# Altium integrated library TI Power Management Power Over Ethernet.IntLib: 76 symbols (part 1 of 9)
Pins are listed as number, name and electrical type; pins without a type are passive.

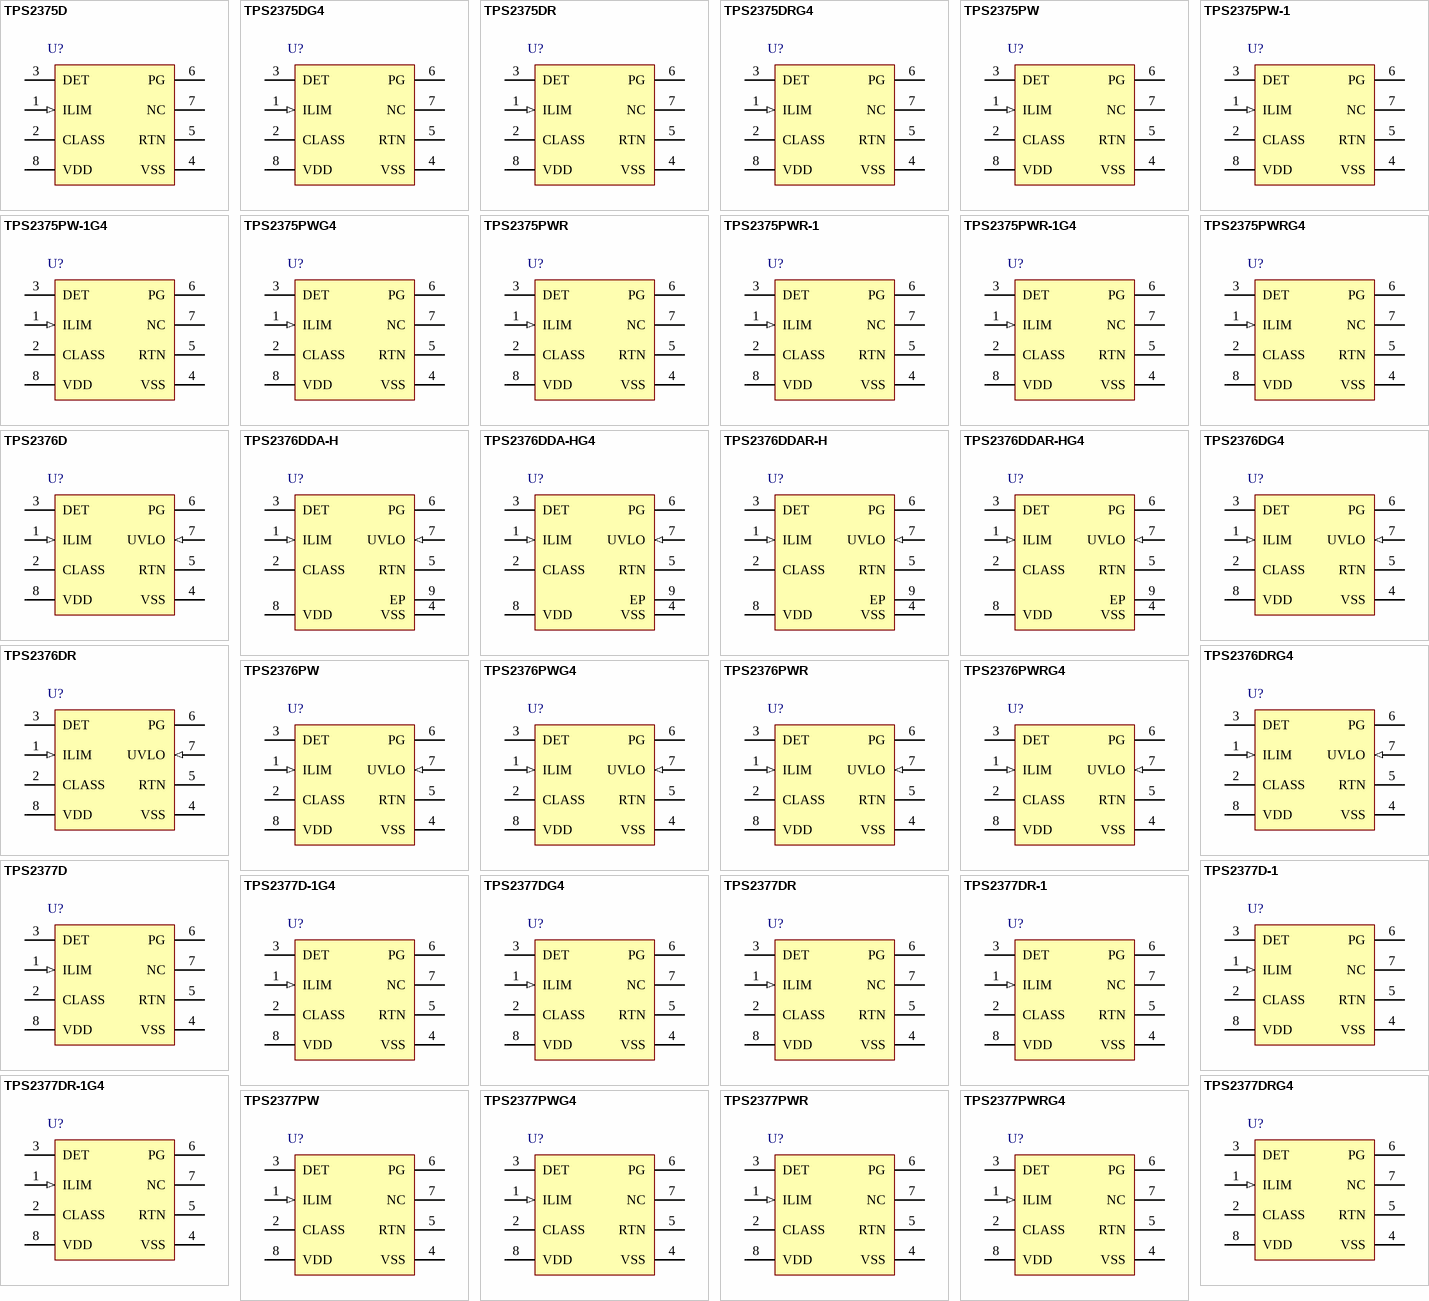
[diagram p0: symbols TPS2375D to TPS2377PWRG4]

## TPS2375D
designator U?
IEEE 802.3af PoE Powered Device Controller, -40 to 85 degC, 8-pin SOIC (D8), Green (RoHS & no Sb/Br); Manufacturer: Texas Instruments; PartNumber: TPS2375D; Auxiliary/Local Power Support: External Circuit; Fault Response: Latch; PD Power Level: 13W; PoE Current Limit(Min)(mA): 405; PoE I/F: TRUE; PoE Inrush Limit(Typ)(mA): Programmable; PoE Standards Supported: 802.3at type1; rDS(on) per FET(Typ)(mOhms): 580; DatasheetVersion: SLVS525B; PackageVersion: 4040047-3/M; PackageReference: D8; PackageDescription: 8-Pin Plastic Small Outline, Body 4.9 x 3.9 mm, Pitch 1.27 mm; Supplier 1: Digi-Key; Supplier Part Number 1: 296-17061-ND; Supplier 2: Farnell; Supplier Part Number 2: 8456860; Supplier 3: Newark; Supplier Part Number 3: 10J9742; Supplier 4: Mouser; Supplier Part Number 4: 595-TPS2375D; Eco-Plan: Green (RoHS & no Sb/Br); SubFamily: Powered Device; UVLO: 802.3af; Mounting Technology: Surface Mount; Code_JEDEC: MS-012; ComponentLink1Description: Manufacturer URL; ComponentLink1URL: http://www.ti.com/; ComponentLink2Description: Datasheet; ComponentLink2URL: http://www.ti.com/general/docs/lit/getliterature.tsp?genericPartNumber=TPS2375&fileType=pdf; ComponentLink3Description: Package Specification; ComponentLink3URL: http://www.ti.com/litv/pdf/msoi002j
footprint TI-D8_N (SOIC, 8-Leads, Body 4.9x3.9mm, Pitch 1.27mm, IPC Medium Density)
footprint TI-D8_L (SOIC, 8-Leads, Body 4.9x3.9mm, Pitch 1.27mm, IPC High Density)
footprint TI-D8_M (SOIC, 8-Leads, Body 4.9x3.9mm, Pitch 1.27mm, IPC Low Density)
pins: 1 ILIM (in) "Connect a resistor from ILIM to VSS to set the start-up inrush current limit. The equation for calculating the resistor is shown in the detailed pin description section for ILIM.", 2 CLASS "Connect a resistor from CLASS to VSS to set the classification of the powered device (PD).", 3 DET "Connect a 24.9-k ohm detection resistor from DET to VDD for a valid PD detection.", 4 VSS (power) "Return line on the source side of the TPS2375 from the PSE.", 5 RTN "Switched output side return line used as the low-side reference for the TPS2375 load.", 6 PG (hiz) "Open-drain, power-good output; active high.", 7 NC "No connection", 8 VDD (power) "Positive line from the rectified PSE provided input."

## TPS2375DG4
designator U?
IEEE 802.3af PoE Powered Device Controller, -40 to 85 degC, 8-pin SOIC (D8), Green (RoHS & no Sb/Br); Manufacturer: Texas Instruments; PartNumber: TPS2375DG4; Auxiliary/Local Power Support: External Circuit; Fault Response: Latch; PD Power Level: 13W; PoE Current Limit(Min)(mA): 405; PoE I/F: TRUE; PoE Inrush Limit(Typ)(mA): Programmable; PoE Standards Supported: 802.3at type1; rDS(on) per FET(Typ)(mOhms): 580; DatasheetVersion: SLVS525B; PackageVersion: 4040047-3/M; PackageReference: D8; PackageDescription: 8-Pin Plastic Small Outline, Body 4.9 x 3.9 mm, Pitch 1.27 mm; Supplier 1: Digi-Key; Supplier Part Number 1: TPS2375DG4-ND; Supplier 2: Newark; Supplier Part Number 2: 54K1590; Supplier 3: Mouser; Supplier Part Number 3: 595-TPS2375DG4; Eco-Plan: Green (RoHS & no Sb/Br); SubFamily: Powered Device; UVLO: 802.3af; Mounting Technology: Surface Mount; Code_JEDEC: MS-012; ComponentLink1Description: Manufacturer URL; ComponentLink1URL: http://www.ti.com/; ComponentLink2Description: Datasheet; ComponentLink2URL: http://www.ti.com/general/docs/lit/getliterature.tsp?genericPartNumber=TPS2375&fileType=pdf; ComponentLink3Description: Package Specification; ComponentLink3URL: http://www.ti.com/litv/pdf/msoi002j
footprint TI-D8_N (SOIC, 8-Leads, Body 4.9x3.9mm, Pitch 1.27mm, IPC Medium Density)
footprint TI-D8_L (SOIC, 8-Leads, Body 4.9x3.9mm, Pitch 1.27mm, IPC High Density)
footprint TI-D8_M (SOIC, 8-Leads, Body 4.9x3.9mm, Pitch 1.27mm, IPC Low Density)
pins: 1 ILIM (in) "Connect a resistor from ILIM to VSS to set the start-up inrush current limit. The equation for calculating the resistor is shown in the detailed pin description section for ILIM.", 2 CLASS "Connect a resistor from CLASS to VSS to set the classification of the powered device (PD).", 3 DET "Connect a 24.9-k ohm detection resistor from DET to VDD for a valid PD detection.", 4 VSS (power) "Return line on the source side of the TPS2375 from the PSE.", 5 RTN "Switched output side return line used as the low-side reference for the TPS2375 load.", 6 PG (hiz) "Open-drain, power-good output; active high.", 7 NC "No connection", 8 VDD (power) "Positive line from the rectified PSE provided input."

## TPS2375DR
designator U?
IEEE 802.3af PoE Powered Device Controller, -40 to 85 degC, 8-pin SOIC (D8), Green (RoHS & no Sb/Br); Manufacturer: Texas Instruments; PartNumber: TPS2375DR; Auxiliary/Local Power Support: External Circuit; Fault Response: Latch; PD Power Level: 13W; PoE Current Limit(Min)(mA): 405; PoE I/F: TRUE; PoE Inrush Limit(Typ)(mA): Programmable; PoE Standards Supported: 802.3at type1; rDS(on) per FET(Typ)(mOhms): 580; DatasheetVersion: SLVS525B; PackageVersion: 4040047-3/M; PackageReference: D8; PackageDescription: 8-Pin Plastic Small Outline, Body 4.9 x 3.9 mm, Pitch 1.27 mm; Supplier 1: Digi-Key; Supplier Part Number 1: 296-26922-2-ND; Supplier 2: Digi-Key; Supplier Part Number 2: 296-26922-1-ND; Supplier 3: Digi-Key; Supplier Part Number 3: 296-26922-6-ND; Supplier 4: Newark; Supplier Part Number 4: 10J9743; Supplier 5: Mouser; Supplier Part Number 5: 595-TPS2375DR; Eco-Plan: Green (RoHS & no Sb/Br); SubFamily: Powered Device; UVLO: 802.3af; Mounting Technology: Surface Mount; Code_JEDEC: MS-012; ComponentLink1Description: Manufacturer URL; ComponentLink1URL: http://www.ti.com/; ComponentLink2Description: Datasheet; ComponentLink2URL: http://www.ti.com/general/docs/lit/getliterature.tsp?genericPartNumber=TPS2375&fileType=pdf; ComponentLink3Description: Package Specification; ComponentLink3URL: http://www.ti.com/litv/pdf/msoi002j
footprint TI-D8_N (SOIC, 8-Leads, Body 4.9x3.9mm, Pitch 1.27mm, IPC Medium Density)
footprint TI-D8_L (SOIC, 8-Leads, Body 4.9x3.9mm, Pitch 1.27mm, IPC High Density)
footprint TI-D8_M (SOIC, 8-Leads, Body 4.9x3.9mm, Pitch 1.27mm, IPC Low Density)
pins: 1 ILIM (in) "Connect a resistor from ILIM to VSS to set the start-up inrush current limit. The equation for calculating the resistor is shown in the detailed pin description section for ILIM.", 2 CLASS "Connect a resistor from CLASS to VSS to set the classification of the powered device (PD).", 3 DET "Connect a 24.9-k ohm detection resistor from DET to VDD for a valid PD detection.", 4 VSS (power) "Return line on the source side of the TPS2375 from the PSE.", 5 RTN "Switched output side return line used as the low-side reference for the TPS2375 load.", 6 PG (hiz) "Open-drain, power-good output; active high.", 7 NC "No connection", 8 VDD (power) "Positive line from the rectified PSE provided input."

## TPS2375DRG4
designator U?
IEEE 802.3af PoE Powered Device Controller, -40 to 85 degC, 8-pin SOIC (D8), Green (RoHS & no Sb/Br); Manufacturer: Texas Instruments; PartNumber: TPS2375DRG4; Auxiliary/Local Power Support: External Circuit; Fault Response: Latch; PD Power Level: 13W; PoE Current Limit(Min)(mA): 405; PoE I/F: TRUE; PoE Inrush Limit(Typ)(mA): Programmable; PoE Standards Supported: 802.3at type1; rDS(on) per FET(Typ)(mOhms): 580; DatasheetVersion: SLVS525B; PackageVersion: 4040047-3/M; PackageReference: D8; PackageDescription: 8-Pin Plastic Small Outline, Body 4.9 x 3.9 mm, Pitch 1.27 mm; Supplier 1: Digi-Key; Supplier Part Number 1: TPS2375DRG4-ND; Supplier 2: Mouser; Supplier Part Number 2: 595-TPS2375DRG4; Eco-Plan: Green (RoHS & no Sb/Br); SubFamily: Powered Device; UVLO: 802.3af; Mounting Technology: Surface Mount; Code_JEDEC: MS-012; ComponentLink1Description: Manufacturer URL; ComponentLink1URL: http://www.ti.com/; ComponentLink2Description: Datasheet; ComponentLink2URL: http://www.ti.com/general/docs/lit/getliterature.tsp?genericPartNumber=TPS2375&fileType=pdf; ComponentLink3Description: Package Specification; ComponentLink3URL: http://www.ti.com/litv/pdf/msoi002j
footprint TI-D8_N (SOIC, 8-Leads, Body 4.9x3.9mm, Pitch 1.27mm, IPC Medium Density)
footprint TI-D8_L (SOIC, 8-Leads, Body 4.9x3.9mm, Pitch 1.27mm, IPC High Density)
footprint TI-D8_M (SOIC, 8-Leads, Body 4.9x3.9mm, Pitch 1.27mm, IPC Low Density)
pins: 1 ILIM (in) "Connect a resistor from ILIM to VSS to set the start-up inrush current limit. The equation for calculating the resistor is shown in the detailed pin description section for ILIM.", 2 CLASS "Connect a resistor from CLASS to VSS to set the classification of the powered device (PD).", 3 DET "Connect a 24.9-k ohm detection resistor from DET to VDD for a valid PD detection.", 4 VSS (power) "Return line on the source side of the TPS2375 from the PSE.", 5 RTN "Switched output side return line used as the low-side reference for the TPS2375 load.", 6 PG (hiz) "Open-drain, power-good output; active high.", 7 NC "No connection", 8 VDD (power) "Positive line from the rectified PSE provided input."

## TPS2375PW
designator U?
IEEE 802.3af PoE Powered Device Controller, -40 to 85 degC, 8-pin SOP (PW8), Green (RoHS & no Sb/Br); Manufacturer: Texas Instruments; PartNumber: TPS2375PW; Auxiliary/Local Power Support: External Circuit; Fault Response: Latch; PD Power Level: 13W; PoE Current Limit(Min)(mA): 405; PoE I/F: TRUE; PoE Inrush Limit(Typ)(mA): Programmable; PoE Standards Supported: 802.3at type1; rDS(on) per FET(Typ)(mOhms): 580; DatasheetVersion: SLVS525B; PackageVersion: 4040064-2/G; PackageReference: PW8; PackageDescription: 8-Pin Plastic Small Outline, Body 4.4 x 3 mm, Pitch 0.65 mm; Supplier 1: Digi-Key; Supplier Part Number 1: 296-17062-ND; Supplier 2: Newark; Supplier Part Number 2: 10J9745; Supplier 3: Mouser; Supplier Part Number 3: 595-TPS2375PW; Eco-Plan: Green (RoHS & no Sb/Br); SubFamily: Powered Device; UVLO: 802.3af; Mounting Technology: Surface Mount; Code_JEDEC: MO-153; ComponentLink1Description: Manufacturer URL; ComponentLink1URL: http://www.ti.com/; ComponentLink2Description: Datasheet; ComponentLink2URL: http://www.ti.com/general/docs/lit/getliterature.tsp?genericPartNumber=TPS2375&fileType=pdf; ComponentLink3Description: Package Specification; ComponentLink3URL: http://www.ti.com/litv/pdf/mtss001d
footprint TI-PW8_N (SOP, 8-Leads, Body 4.4x3mm, Pitch 0.65mm, IPC Medium Density)
footprint TI-PW8_L (SOP, 8-Leads, Body 4.4x3mm, Pitch 0.65mm, IPC High Density)
footprint TI-PW8_M (SOP, 8-Leads, Body 4.4x3mm, Pitch 0.65mm, IPC Low Density)
pins: 1 ILIM (in) "Connect a resistor from ILIM to VSS to set the start-up inrush current limit. The equation for calculating the resistor is shown in the detailed pin description section for ILIM.", 2 CLASS "Connect a resistor from CLASS to VSS to set the classification of the powered device (PD). The IEEE classification levels and corresponding resistor values are shown in Table 1.", 3 DET "Connect a 24.9-k ohm detection resistor from DET to VDD for a valid PD detection.", 4 VSS (power) "Return line on the source side of the TPS2375 from the PSE.", 5 RTN "Switched output side return line used as the low-side reference for the TPS2375 load.", 6 PG (hiz) "Open-drain, power-good output; active high.", 7 NC "No connection", 8 VDD (power) "Positive line from the rectified PSE provided input."

## TPS2375PW-1
designator U?
IEEE 802.3af PoE Powered Device Controllers, -40 to 85 degC, 8-pin TSSOP (PW8), Green (RoHS & no Sb/Br); Manufacturer: Texas Instruments; PartNumber: TPS2375PW-1; Auxiliary/Local Power Support: External Circuit; Fault Response: Auto Retry; PD Power Level: 13W; PoE Current Limit(Min)(mA): 405; PoE I/F: TRUE; PoE Inrush Limit(Typ)(mA): Programmable; PoE Standards Supported: 802.3at type1; rDS(on) per FET(Typ)(mOhms): 580; DatasheetVersion: SLVS570A; PackageVersion: 4040064-2/G; PackageReference: PW8; PackageDescription: 8-Pin Plastic Small Outline, Body 4.4 x 3 mm, Pitch 0.65 mm; Supplier 1: Digi-Key; Supplier Part Number 1: 296-17903-5-ND; Supplier 2: Farnell; Supplier Part Number 2: 1576972; Supplier 3: Newark; Supplier Part Number 3: 28K5718; Supplier 4: Mouser; Supplier Part Number 4: 595-TPS2375PW-1; Eco-Plan: Green (RoHS & no Sb/Br); SubFamily: Powered Device; UVLO: 802.3af; Mounting Technology: Surface Mount; Code_JEDEC: MO-153; ComponentLink1Description: Manufacturer URL; ComponentLink1URL: http://www.ti.com/; ComponentLink2Description: Datasheet; ComponentLink2URL: http://www.ti.com/general/docs/lit/getliterature.tsp?genericPartNumber=TPS2375-1&fileType=pdf; ComponentLink3Description: Package Specification; ComponentLink3URL: http://www.ti.com/litv/pdf/mtss001d
footprint TI-PW8_N (SOP, 8-Leads, Body 4.4x3mm, Pitch 0.65mm, IPC Medium Density)
footprint TI-PW8_L (SOP, 8-Leads, Body 4.4x3mm, Pitch 0.65mm, IPC High Density)
footprint TI-PW8_M (SOP, 8-Leads, Body 4.4x3mm, Pitch 0.65mm, IPC Low Density)
pins: 1 ILIM (in) "Connect a resistor from ILIM to VSS to set the start-up inrush current limit. The equation for calculating the resistor is shown in the detailed pin description section for ILIM.", 2 CLASS "Connect a resistor from CLASS to VSS to set the classification of the powered device  (PD).", 3 DET "Connect a 24.9-k ohm detection resistor from DET to VDD for a valid PD detection.", 4 VSS (power) "Return line on the source side of the TPS2375-1 from the PSE.", 5 RTN "Switched output side return line used as the low-side reference for the TPS2375-1 load.", 6 PG (hiz) "Open-drain, power-good output; active high.", 7 NC "No connection", 8 VDD (power) "Positive line from the rectified PSE provided input."

## TPS2375PW-1G4
designator U?
IEEE 802.3af PoE Powered Device Controllers, -40 to 85 degC, 8-pin TSSOP (PW8), Green (RoHS & no Sb/Br); Manufacturer: Texas Instruments; PartNumber: TPS2375PW-1G4; Auxiliary/Local Power Support: External Circuit; Fault Response: Auto Retry; PD Power Level: 13W; PoE Current Limit(Min)(mA): 405; PoE I/F: TRUE; PoE Inrush Limit(Typ)(mA): Programmable; PoE Standards Supported: 802.3at type1; rDS(on) per FET(Typ)(mOhms): 580; DatasheetVersion: SLVS570A; PackageVersion: 4040064-2/G; PackageReference: PW8; PackageDescription: 8-Pin Plastic Small Outline, Body 4.4 x 3 mm, Pitch 0.65 mm; Supplier 1: Digi-Key; Supplier Part Number 1: TPS2375PW-1G4-ND; Supplier 2: Mouser; Supplier Part Number 2: 595-TPS2375PW-1G4; Eco-Plan: Green (RoHS & no Sb/Br); SubFamily: Powered Device; UVLO: 802.3af; Mounting Technology: Surface Mount; Code_JEDEC: MO-153; ComponentLink1Description: Manufacturer URL; ComponentLink1URL: http://www.ti.com/; ComponentLink2Description: Datasheet; ComponentLink2URL: http://www.ti.com/general/docs/lit/getliterature.tsp?genericPartNumber=TPS2375-1&fileType=pdf; ComponentLink3Description: Package Specification; ComponentLink3URL: http://www.ti.com/litv/pdf/mtss001d
footprint TI-PW8_N (SOP, 8-Leads, Body 4.4x3mm, Pitch 0.65mm, IPC Medium Density)
footprint TI-PW8_L (SOP, 8-Leads, Body 4.4x3mm, Pitch 0.65mm, IPC High Density)
footprint TI-PW8_M (SOP, 8-Leads, Body 4.4x3mm, Pitch 0.65mm, IPC Low Density)
pins: 1 ILIM (in) "Connect a resistor from ILIM to VSS to set the start-up inrush current limit. The equation for calculating the resistor is shown in the detailed pin description section for ILIM.", 2 CLASS "Connect a resistor from CLASS to VSS to set the classification of the powered device  (PD).", 3 DET "Connect a 24.9-k ohm detection resistor from DET to VDD for a valid PD detection.", 4 VSS (power) "Return line on the source side of the TPS2375-1 from the PSE.", 5 RTN "Switched output side return line used as the low-side reference for the TPS2375-1 load.", 6 PG (hiz) "Open-drain, power-good output; active high.", 7 NC "No connection", 8 VDD (power) "Positive line from the rectified PSE provided input."

## TPS2375PWG4
designator U?
IEEE 802.3af PoE Powered Device Controller, -40 to 85 degC, 8-pin SOP (PW8), Green (RoHS & no Sb/Br); Manufacturer: Texas Instruments; PartNumber: TPS2375PWG4; Auxiliary/Local Power Support: External Circuit; Fault Response: Latch; PD Power Level: 13W; PoE Current Limit(Min)(mA): 405; PoE I/F: TRUE; PoE Inrush Limit(Typ)(mA): Programmable; PoE Standards Supported: 802.3at type1; rDS(on) per FET(Typ)(mOhms): 580; DatasheetVersion: SLVS525B; PackageVersion: 4040064-2/G; PackageReference: PW8; PackageDescription: 8-Pin Plastic Small Outline, Body 4.4 x 3 mm, Pitch 0.65 mm; Supplier 1: Digi-Key; Supplier Part Number 1: TPS2375PWG4-ND; Supplier 2: Farnell; Supplier Part Number 2: 1180190; Supplier 3: Newark; Supplier Part Number 3: 67K8632; Supplier 4: Mouser; Supplier Part Number 4: 595-TPS2375PWG4; Eco-Plan: Green (RoHS & no Sb/Br); SubFamily: Powered Device; UVLO: 802.3af; Mounting Technology: Surface Mount; Code_JEDEC: MO-153; ComponentLink1Description: Manufacturer URL; ComponentLink1URL: http://www.ti.com/; ComponentLink2Description: Datasheet; ComponentLink2URL: http://www.ti.com/general/docs/lit/getliterature.tsp?genericPartNumber=TPS2375&fileType=pdf; ComponentLink3Description: Package Specification; ComponentLink3URL: http://www.ti.com/litv/pdf/mtss001d
footprint TI-PW8_N (SOP, 8-Leads, Body 4.4x3mm, Pitch 0.65mm, IPC Medium Density)
footprint TI-PW8_L (SOP, 8-Leads, Body 4.4x3mm, Pitch 0.65mm, IPC High Density)
footprint TI-PW8_M (SOP, 8-Leads, Body 4.4x3mm, Pitch 0.65mm, IPC Low Density)
pins: 1 ILIM (in) "Connect a resistor from ILIM to VSS to set the start-up inrush current limit. The equation for calculating the resistor is shown in the detailed pin description section for ILIM.", 2 CLASS "Connect a resistor from CLASS to VSS to set the classification of the powered device (PD). The IEEE classification levels and corresponding resistor values are shown in Table 1.", 3 DET "Connect a 24.9-k ohm detection resistor from DET to VDD for a valid PD detection.", 4 VSS (power) "Return line on the source side of the TPS2375 from the PSE.", 5 RTN "Switched output side return line used as the low-side reference for the TPS2375 load.", 6 PG (hiz) "Open-drain, power-good output; active high.", 7 NC "No connection", 8 VDD (power) "Positive line from the rectified PSE provided input."

## TPS2375PWR
designator U?
IEEE 802.3af PoE Powered Device Controller, -40 to 85 degC, 8-pin SOP (PW8), Green (RoHS & no Sb/Br); Manufacturer: Texas Instruments; PartNumber: TPS2375PWR; Auxiliary/Local Power Support: External Circuit; Fault Response: Latch; PD Power Level: 13W; PoE Current Limit(Min)(mA): 405; PoE I/F: TRUE; PoE Inrush Limit(Typ)(mA): Programmable; PoE Standards Supported: 802.3at type1; rDS(on) per FET(Typ)(mOhms): 580; DatasheetVersion: SLVS525B; PackageVersion: 4040064-2/G; PackageReference: PW8; PackageDescription: 8-Pin Plastic Small Outline, Body 4.4 x 3 mm, Pitch 0.65 mm; Supplier 1: Digi-Key; Supplier Part Number 1: 296-26923-2-ND; Supplier 2: Digi-Key; Supplier Part Number 2: 296-26923-1-ND; Supplier 3: Digi-Key; Supplier Part Number 3: 296-26923-6-ND; Supplier 4: Newark; Supplier Part Number 4: 10J9746; Supplier 5: Mouser; Supplier Part Number 5: 595-TPS2375PWR; Eco-Plan: Green (RoHS & no Sb/Br); SubFamily: Powered Device; UVLO: 802.3af; Mounting Technology: Surface Mount; Code_JEDEC: MO-153; ComponentLink1Description: Manufacturer URL; ComponentLink1URL: http://www.ti.com/; ComponentLink2Description: Datasheet; ComponentLink2URL: http://www.ti.com/general/docs/lit/getliterature.tsp?genericPartNumber=TPS2375&fileType=pdf; ComponentLink3Description: Package Specification; ComponentLink3URL: http://www.ti.com/litv/pdf/mtss001d
footprint TI-PW8_N (SOP, 8-Leads, Body 4.4x3mm, Pitch 0.65mm, IPC Medium Density)
footprint TI-PW8_L (SOP, 8-Leads, Body 4.4x3mm, Pitch 0.65mm, IPC High Density)
footprint TI-PW8_M (SOP, 8-Leads, Body 4.4x3mm, Pitch 0.65mm, IPC Low Density)
pins: 1 ILIM (in) "Connect a resistor from ILIM to VSS to set the start-up inrush current limit. The equation for calculating the resistor is shown in the detailed pin description section for ILIM.", 2 CLASS "Connect a resistor from CLASS to VSS to set the classification of the powered device (PD). The IEEE classification levels and corresponding resistor values are shown in Table 1.", 3 DET "Connect a 24.9-k ohm detection resistor from DET to VDD for a valid PD detection.", 4 VSS (power) "Return line on the source side of the TPS2375 from the PSE.", 5 RTN "Switched output side return line used as the low-side reference for the TPS2375 load.", 6 PG (hiz) "Open-drain, power-good output; active high.", 7 NC "No connection", 8 VDD (power) "Positive line from the rectified PSE provided input."

## TPS2375PWR-1
designator U?
IEEE 802.3af PoE Powered Device Controllers, -40 to 85 degC, 8-pin TSSOP (PW8), Green (RoHS & no Sb/Br); Manufacturer: Texas Instruments; PartNumber: TPS2375PWR-1; Auxiliary/Local Power Support: External Circuit; Fault Response: Auto Retry; PD Power Level: 13W; PoE Current Limit(Min)(mA): 405; PoE I/F: TRUE; PoE Inrush Limit(Typ)(mA): Programmable; PoE Standards Supported: 802.3at type1; rDS(on) per FET(Typ)(mOhms): 580; DatasheetVersion: SLVS570A; PackageVersion: 4040064-2/G; PackageReference: PW8; PackageDescription: 8-Pin Plastic Small Outline, Body 4.4 x 3 mm, Pitch 0.65 mm; Supplier 1: Digi-Key; Supplier Part Number 1: TPS2375PWR-1-ND; Supplier 2: Mouser; Supplier Part Number 2: 595-TPS2375PWR-1; Eco-Plan: Green (RoHS & no Sb/Br); SubFamily: Powered Device; UVLO: 802.3af; Mounting Technology: Surface Mount; Code_JEDEC: MO-153; ComponentLink1Description: Manufacturer URL; ComponentLink1URL: http://www.ti.com/; ComponentLink2Description: Datasheet; ComponentLink2URL: http://www.ti.com/general/docs/lit/getliterature.tsp?genericPartNumber=TPS2375-1&fileType=pdf; ComponentLink3Description: Package Specification; ComponentLink3URL: http://www.ti.com/litv/pdf/mtss001d
footprint TI-PW8_N (SOP, 8-Leads, Body 4.4x3mm, Pitch 0.65mm, IPC Medium Density)
footprint TI-PW8_L (SOP, 8-Leads, Body 4.4x3mm, Pitch 0.65mm, IPC High Density)
footprint TI-PW8_M (SOP, 8-Leads, Body 4.4x3mm, Pitch 0.65mm, IPC Low Density)
pins: 1 ILIM (in) "Connect a resistor from ILIM to VSS to set the start-up inrush current limit. The equation for calculating the resistor is shown in the detailed pin description section for ILIM.", 2 CLASS "Connect a resistor from CLASS to VSS to set the classification of the powered device  (PD).", 3 DET "Connect a 24.9-k ohm detection resistor from DET to VDD for a valid PD detection.", 4 VSS (power) "Return line on the source side of the TPS2375-1 from the PSE.", 5 RTN "Switched output side return line used as the low-side reference for the TPS2375-1 load.", 6 PG (hiz) "Open-drain, power-good output; active high.", 7 NC "No connection", 8 VDD (power) "Positive line from the rectified PSE provided input."

## TPS2375PWR-1G4
designator U?
IEEE 802.3af PoE Powered Device Controllers, -40 to 85 degC, 8-pin TSSOP (PW8), Green (RoHS & no Sb/Br); Manufacturer: Texas Instruments; PartNumber: TPS2375PWR-1G4; Auxiliary/Local Power Support: External Circuit; Fault Response: Auto Retry; PD Power Level: 13W; PoE Current Limit(Min)(mA): 405; PoE I/F: TRUE; PoE Inrush Limit(Typ)(mA): Programmable; PoE Standards Supported: 802.3at type1; rDS(on) per FET(Typ)(mOhms): 580; DatasheetVersion: SLVS570A; PackageVersion: 4040064-2/G; PackageReference: PW8; PackageDescription: 8-Pin Plastic Small Outline, Body 4.4 x 3 mm, Pitch 0.65 mm; Supplier 1: Digi-Key; Supplier Part Number 1: TPS2375PWR-1G4-ND; Supplier 2: Mouser; Supplier Part Number 2: 595-TPS2375PWR-1G4; Eco-Plan: Green (RoHS & no Sb/Br); SubFamily: Powered Device; UVLO: 802.3af; Mounting Technology: Surface Mount; Code_JEDEC: MO-153; ComponentLink1Description: Manufacturer URL; ComponentLink1URL: http://www.ti.com/; ComponentLink2Description: Datasheet; ComponentLink2URL: http://www.ti.com/general/docs/lit/getliterature.tsp?genericPartNumber=TPS2375-1&fileType=pdf; ComponentLink3Description: Package Specification; ComponentLink3URL: http://www.ti.com/litv/pdf/mtss001d
footprint TI-PW8_N (SOP, 8-Leads, Body 4.4x3mm, Pitch 0.65mm, IPC Medium Density)
footprint TI-PW8_L (SOP, 8-Leads, Body 4.4x3mm, Pitch 0.65mm, IPC High Density)
footprint TI-PW8_M (SOP, 8-Leads, Body 4.4x3mm, Pitch 0.65mm, IPC Low Density)
pins: 1 ILIM (in) "Connect a resistor from ILIM to VSS to set the start-up inrush current limit. The equation for calculating the resistor is shown in the detailed pin description section for ILIM.", 2 CLASS "Connect a resistor from CLASS to VSS to set the classification of the powered device  (PD).", 3 DET "Connect a 24.9-k ohm detection resistor from DET to VDD for a valid PD detection.", 4 VSS (power) "Return line on the source side of the TPS2375-1 from the PSE.", 5 RTN "Switched output side return line used as the low-side reference for the TPS2375-1 load.", 6 PG (hiz) "Open-drain, power-good output; active high.", 7 NC "No connection", 8 VDD (power) "Positive line from the rectified PSE provided input."

## TPS2375PWRG4
designator U?
IEEE 802.3af PoE Powered Device Controller, -40 to 85 degC, 8-pin SOP (PW8), Green (RoHS & no Sb/Br); Manufacturer: Texas Instruments; PartNumber: TPS2375PWRG4; Auxiliary/Local Power Support: External Circuit; Fault Response: Latch; PD Power Level: 13W; PoE Current Limit(Min)(mA): 405; PoE I/F: TRUE; PoE Inrush Limit(Typ)(mA): Programmable; PoE Standards Supported: 802.3at type1; rDS(on) per FET(Typ)(mOhms): 580; DatasheetVersion: SLVS525B; PackageVersion: 4040064-2/G; PackageReference: PW8; PackageDescription: 8-Pin Plastic Small Outline, Body 4.4 x 3 mm, Pitch 0.65 mm; Supplier 1: Digi-Key; Supplier Part Number 1: TPS2375PWRG4-ND; Supplier 2: Newark; Supplier Part Number 2: 33K7580; Supplier 3: Mouser; Supplier Part Number 3: 595-TPS2375PWRG4; Eco-Plan: Green (RoHS & no Sb/Br); SubFamily: Powered Device; UVLO: 802.3af; Mounting Technology: Surface Mount; Code_JEDEC: MO-153; ComponentLink1Description: Manufacturer URL; ComponentLink1URL: http://www.ti.com/; ComponentLink2Description: Datasheet; ComponentLink2URL: http://www.ti.com/general/docs/lit/getliterature.tsp?genericPartNumber=TPS2375&fileType=pdf; ComponentLink3Description: Package Specification; ComponentLink3URL: http://www.ti.com/litv/pdf/mtss001d
footprint TI-PW8_N (SOP, 8-Leads, Body 4.4x3mm, Pitch 0.65mm, IPC Medium Density)
footprint TI-PW8_L (SOP, 8-Leads, Body 4.4x3mm, Pitch 0.65mm, IPC High Density)
footprint TI-PW8_M (SOP, 8-Leads, Body 4.4x3mm, Pitch 0.65mm, IPC Low Density)
pins: 1 ILIM (in) "Connect a resistor from ILIM to VSS to set the start-up inrush current limit. The equation for calculating the resistor is shown in the detailed pin description section for ILIM.", 2 CLASS "Connect a resistor from CLASS to VSS to set the classification of the powered device (PD). The IEEE classification levels and corresponding resistor values are shown in Table 1.", 3 DET "Connect a 24.9-k ohm detection resistor from DET to VDD for a valid PD detection.", 4 VSS (power) "Return line on the source side of the TPS2375 from the PSE.", 5 RTN "Switched output side return line used as the low-side reference for the TPS2375 load.", 6 PG (hiz) "Open-drain, power-good output; active high.", 7 NC "No connection", 8 VDD (power) "Positive line from the rectified PSE provided input."

## TPS2376D
designator U?
IEEE 802.3af PoE Powered Device Controller, -40 to 85 degC, 8-pin SOIC (D8), Green (RoHS & no Sb/Br); Manufacturer: Texas Instruments; PartNumber: TPS2376D; Auxiliary/Local Power Support: External Circuit; Fault Response: Latch; PD Power Level: 13W; PoE Current Limit(Min)(mA): 405; PoE I/F: TRUE; PoE Inrush Limit(Typ)(mA): Programmable; PoE Standards Supported: 802.3at type1; rDS(on) per FET(Typ)(mOhms): 580; UVLO: Adjustable; DatasheetVersion: SLVS525B; PackageVersion: 4040047-3/M; PackageReference: D8; PackageDescription: 8-Pin Plastic Small Outline, Body 4.9 x 3.9 mm, Pitch 1.27 mm; Supplier 1: Digi-Key; Supplier Part Number 1: 296-17063-ND; Supplier 2: Newark; Supplier Part Number 2: 10J9747; Supplier 3: Mouser; Supplier Part Number 3: 595-TPS2376D; Eco-Plan: Green (RoHS & no Sb/Br); SubFamily: Powered Device; Mounting Technology: Surface Mount; Code_JEDEC: MS-012; ComponentLink1Description: Manufacturer URL; ComponentLink1URL: http://www.ti.com/; ComponentLink2Description: Datasheet; ComponentLink2URL: http://www.ti.com/general/docs/lit/getliterature.tsp?genericPartNumber=TPS2376&fileType=pdf; ComponentLink3Description: Package Specification; ComponentLink3URL: http://www.ti.com/litv/pdf/msoi002j
footprint TI-D8_N (SOIC, 8-Leads, Body 4.9x3.9mm, Pitch 1.27mm, IPC Medium Density)
footprint TI-D8_L (SOIC, 8-Leads, Body 4.9x3.9mm, Pitch 1.27mm, IPC High Density)
footprint TI-D8_M (SOIC, 8-Leads, Body 4.9x3.9mm, Pitch 1.27mm, IPC Low Density)
pins: 1 ILIM (in) "Connect a resistor from ILIM to VSS to set the start-up inrush current limit.The equation for calculating the resistor is shown in the detailed pin description section for ILIM.", 2 CLASS "Connect a resistor from CLASS to VSS to set the classification of the powered device (PD).", 3 DET "Connect a 24.9-kohm detection resistor from DET to VDD for a valid PD  detection.", 4 VSS (power) "Return line on the source side of the TPS2375 from the PSE.", 5 RTN "Switched output side return line used as the low-side reference for the TPS2375 load.", 6 PG (hiz) "Open-drain, power-good output; active high.", 7 UVLO (in) "Used only on the TPS2376. Connect a resistor divider from VDD to VSS to implement the adjustable UVLO feature of the TPS2376.", 8 VDD (power) "Positive line from the rectified PSE provided input"

## TPS2376DDA-H
designator U?
IEEE 802.3af PoE High Power PD Controller, -40 to 85 degC, 8-pin SO PowerPAD (DDA8), Green (RoHS & no Sb/Br); Manufacturer: Texas Instruments; PartNumber: TPS2376DDA-H; Auxiliary/Local Power Support: External Circuit; Fault Response: Auto Retry; PD Power Level: 25W; PoE Current Limit(Min)(mA): 625; PoE I/F: TRUE; PoE Inrush Limit(Typ)(mA): Programmable; PoE Standards Supported: 802.3at type1 (high current); rDS(on) per FET(Typ)(mOhms): 580; SubFamily: Powered Device; UVLO: Adjustable; DatasheetVersion: SLVS646A; PackageVersion: 4202561/F; PackageReference: DDA8-2750X2250TP; PackageDescription: 8-Pin PowerPad Plastic Small-Outline, Body 4.9 x 3.9 mm, Pitch 1.27 mm; Supplier 1: Digi-Key; Supplier Part Number 1: 296-20785-5-ND; Supplier 2: Newark; Supplier Part Number 2: 18M7784; Supplier 3: Mouser; Supplier Part Number 3: 595-TPS2376DDA-H; Eco-Plan: Green (RoHS & no Sb/Br); Mounting Technology: Surface Mount; Code_JEDEC: MS-012; ComponentLink1Description: Manufacturer URL; ComponentLink1URL: http://www.ti.com/; ComponentLink2Description: Datasheet; ComponentLink2URL: http://www.ti.com/general/docs/lit/getliterature.tsp?genericPartNumber=TPS2376-H&fileType=pdf; ComponentLink3Description: Package Specification; ComponentLink3URL: http://www.ti.com/litv/pdf/mpds092e
footprint TI-DDA8-2750X2250TP_N (SOP, 8-Leads, Body 4.9x3.9mm, Pitch 1.27mm, Thermal Pad 2.75 x2.25mm, IPC Medium Density)
footprint TI-DDA8-2750X2250TP_L (SOP, 8-Leads, Body 4.9x3.9mm, Pitch 1.27mm, Thermal Pad 2.75x2.25mm, IPC High Density)
footprint TI-DDA8-2750X2250TP_M (SOP, 8-Leads, Body 4.9x3.9mm, Pitch 1.27mm, Thermal Pad 2.75 x2.25mm, IPC Low Density)
pins: 1 ILIM (in) "Connect a resistor from ILIM to VSS to set the start-up inrush current limit. The equation for calculating the resistor is shown in the detailed pin description section for ILIM.", 2 CLASS "Connect a resistor from CLASS to VSS to set the classification of the powered device(PD). The IEEE classification levels and corresponding resistor values are shown in Table 1.", 3 DET "Connect a 24.9-kohm detection resistor from DET to VDD.", 4 VSS (power) "Return line on the source side of the TPS2376-H from the PSE.", 5 RTN "Switched output side return line used as the low-side reference for the TPS2376-H load.", 6 PG (hiz) "Open-drain, power-good output, active high, referenced to RTN.", 7 UVLO (in) "UVLO comparator input that controls pass-device turn-on and off. Connect UVLO to a resistor divider from VDD to VSS.", 8 VDD (power) "Positive line from the rectified PSE provided input.", 9 EP (power) "The PowerPad must be connected to VSS. The VSS copper on the circuit board must be a large fill area to assist in heat dissipation."

## TPS2376DDA-HG4
designator U?
IEEE 802.3af PoE High Power PD Controller, -40 to 85 degC, 8-pin SO PowerPAD (DDA8), Green (RoHS & no Sb/Br); Manufacturer: Texas Instruments; PartNumber: TPS2376DDA-HG4; Auxiliary/Local Power Support: External Circuit; Fault Response: Auto Retry; PD Power Level: 25W; PoE Current Limit(Min)(mA): 625; PoE I/F: TRUE; PoE Inrush Limit(Typ)(mA): Programmable; PoE Standards Supported: 802.3at type1 (high current); rDS(on) per FET(Typ)(mOhms): 580; SubFamily: Powered Device; UVLO: Adjustable; DatasheetVersion: SLVS646A; PackageVersion: 4202561/F; PackageReference: DDA8-2750X2250TP; PackageDescription: 8-Pin PowerPad Plastic Small-Outline, Body 4.9 x 3.9 mm, Pitch 1.27 mm; Supplier 1: Digi-Key; Supplier Part Number 1: TPS2376DDA-HG4-ND; Supplier 2: Farnell; Supplier Part Number 2: 1329593; Supplier 3: Newark; Supplier Part Number 3: 62M0674; Supplier 4: Newark; Supplier Part Number 4: 20M5882; Supplier 5: Mouser; Supplier Part Number 5: 595-TPS2376DDA-HG4; Eco-Plan: Green (RoHS & no Sb/Br); Mounting Technology: Surface Mount; Code_JEDEC: MS-012; ComponentLink1Description: Manufacturer URL; ComponentLink1URL: http://www.ti.com/; ComponentLink2Description: Datasheet; ComponentLink2URL: http://www.ti.com/general/docs/lit/getliterature.tsp?genericPartNumber=TPS2376-H&fileType=pdf; ComponentLink3Description: Package Specification; ComponentLink3URL: http://www.ti.com/litv/pdf/mpds092e
footprint TI-DDA8-2750X2250TP_N (SOP, 8-Leads, Body 4.9x3.9mm, Pitch 1.27mm, Thermal Pad 2.75 x2.25mm, IPC Medium Density)
footprint TI-DDA8-2750X2250TP_L (SOP, 8-Leads, Body 4.9x3.9mm, Pitch 1.27mm, Thermal Pad 2.75x2.25mm, IPC High Density)
footprint TI-DDA8-2750X2250TP_M (SOP, 8-Leads, Body 4.9x3.9mm, Pitch 1.27mm, Thermal Pad 2.75 x2.25mm, IPC Low Density)
pins: 1 ILIM (in) "Connect a resistor from ILIM to VSS to set the start-up inrush current limit. The equation for calculating the resistor is shown in the detailed pin description section for ILIM.", 2 CLASS "Connect a resistor from CLASS to VSS to set the classification of the powered device(PD). The IEEE classification levels and corresponding resistor values are shown in Table 1.", 3 DET "Connect a 24.9-kohm detection resistor from DET to VDD.", 4 VSS (power) "Return line on the source side of the TPS2376-H from the PSE.", 5 RTN "Switched output side return line used as the low-side reference for the TPS2376-H load.", 6 PG (hiz) "Open-drain, power-good output, active high, referenced to RTN.", 7 UVLO (in) "UVLO comparator input that controls pass-device turn-on and off. Connect UVLO to a resistor divider from VDD to VSS.", 8 VDD (power) "Positive line from the rectified PSE provided input.", 9 EP (power) "The PowerPad must be connected to VSS. The VSS copper on the circuit board must be a large fill area to assist in heat dissipation."

## TPS2376DDAR-H
designator U?
IEEE 802.3af PoE High Power PD Controller, -40 to 85 degC, 8-pin SO PowerPAD (DDA8), Green (RoHS & no Sb/Br); Manufacturer: Texas Instruments; PartNumber: TPS2376DDAR-H; Auxiliary/Local Power Support: External Circuit; Fault Response: Auto Retry; PD Power Level: 25W; PoE Current Limit(Min)(mA): 625; PoE I/F: TRUE; PoE Inrush Limit(Typ)(mA): Programmable; PoE Standards Supported: 802.3at type1 (high current); rDS(on) per FET(Typ)(mOhms): 580; SubFamily: Powered Device; UVLO: Adjustable; DatasheetVersion: SLVS646A; PackageVersion: 4202561/F; PackageReference: DDA8-2750X2250TP; PackageDescription: 8-Pin PowerPad Plastic Small-Outline, Body 4.9 x 3.9 mm, Pitch 1.27 mm; Supplier 1: Digi-Key; Supplier Part Number 1: TPS2376DDAR-H-ND; Supplier 2: Newark; Supplier Part Number 2: 18M7785; Supplier 3: Mouser; Supplier Part Number 3: 595-TPS2376DDAR-H; Eco-Plan: Green (RoHS & no Sb/Br); Mounting Technology: Surface Mount; Code_JEDEC: MS-012; ComponentLink1Description: Manufacturer URL; ComponentLink1URL: http://www.ti.com/; ComponentLink2Description: Datasheet; ComponentLink2URL: http://www.ti.com/general/docs/lit/getliterature.tsp?genericPartNumber=TPS2376-H&fileType=pdf; ComponentLink3Description: Package Specification; ComponentLink3URL: http://www.ti.com/litv/pdf/mpds092e
footprint TI-DDA8-2750X2250TP_N (SOP, 8-Leads, Body 4.9x3.9mm, Pitch 1.27mm, Thermal Pad 2.75 x2.25mm, IPC Medium Density)
footprint TI-DDA8-2750X2250TP_L (SOP, 8-Leads, Body 4.9x3.9mm, Pitch 1.27mm, Thermal Pad 2.75x2.25mm, IPC High Density)
footprint TI-DDA8-2750X2250TP_M (SOP, 8-Leads, Body 4.9x3.9mm, Pitch 1.27mm, Thermal Pad 2.75 x2.25mm, IPC Low Density)
pins: 1 ILIM (in) "Connect a resistor from ILIM to VSS to set the start-up inrush current limit. The equation for calculating the resistor is shown in the detailed pin description section for ILIM.", 2 CLASS "Connect a resistor from CLASS to VSS to set the classification of the powered device(PD). The IEEE classification levels and corresponding resistor values are shown in Table 1.", 3 DET "Connect a 24.9-kohm detection resistor from DET to VDD.", 4 VSS (power) "Return line on the source side of the TPS2376-H from the PSE.", 5 RTN "Switched output side return line used as the low-side reference for the TPS2376-H load.", 6 PG (hiz) "Open-drain, power-good output, active high, referenced to RTN.", 7 UVLO (in) "UVLO comparator input that controls pass-device turn-on and off. Connect UVLO to a resistor divider from VDD to VSS.", 8 VDD (power) "Positive line from the rectified PSE provided input.", 9 EP (power) "The PowerPad must be connected to VSS. The VSS copper on the circuit board must be a large fill area to assist in heat dissipation."

## TPS2376DDAR-HG4
designator U?
IEEE 802.3af PoE High Power PD Controller, -40 to 85 degC, 8-pin SO PowerPAD (DDA8), Green (RoHS & no Sb/Br); Manufacturer: Texas Instruments; PartNumber: TPS2376DDAR-HG4; Auxiliary/Local Power Support: External Circuit; Fault Response: Auto Retry; PD Power Level: 25W; PoE Current Limit(Min)(mA): 625; PoE I/F: TRUE; PoE Inrush Limit(Typ)(mA): Programmable; PoE Standards Supported: 802.3at type1 (high current); rDS(on) per FET(Typ)(mOhms): 580; SubFamily: Powered Device; UVLO: Adjustable; DatasheetVersion: SLVS646A; PackageVersion: 4202561/F; PackageReference: DDA8-2750X2250TP; PackageDescription: 8-Pin PowerPad Plastic Small-Outline, Body 4.9 x 3.9 mm, Pitch 1.27 mm; Supplier 1: Digi-Key; Supplier Part Number 1: TPS2376DDAR-HG4-ND; Supplier 2: Newark; Supplier Part Number 2: 20M5883; Supplier 3: Mouser; Supplier Part Number 3: 595-TPS2376DDAR-HG4; Eco-Plan: Green (RoHS & no Sb/Br); Mounting Technology: Surface Mount; Code_JEDEC: MS-012; ComponentLink1Description: Manufacturer URL; ComponentLink1URL: http://www.ti.com/; ComponentLink2Description: Datasheet; ComponentLink2URL: http://www.ti.com/general/docs/lit/getliterature.tsp?genericPartNumber=TPS2376-H&fileType=pdf; ComponentLink3Description: Package Specification; ComponentLink3URL: http://www.ti.com/litv/pdf/mpds092e
footprint TI-DDA8-2750X2250TP_N (SOP, 8-Leads, Body 4.9x3.9mm, Pitch 1.27mm, Thermal Pad 2.75 x2.25mm, IPC Medium Density)
footprint TI-DDA8-2750X2250TP_L (SOP, 8-Leads, Body 4.9x3.9mm, Pitch 1.27mm, Thermal Pad 2.75x2.25mm, IPC High Density)
footprint TI-DDA8-2750X2250TP_M (SOP, 8-Leads, Body 4.9x3.9mm, Pitch 1.27mm, Thermal Pad 2.75 x2.25mm, IPC Low Density)
pins: 1 ILIM (in) "Connect a resistor from ILIM to VSS to set the start-up inrush current limit. The equation for calculating the resistor is shown in the detailed pin description section for ILIM.", 2 CLASS "Connect a resistor from CLASS to VSS to set the classification of the powered device(PD). The IEEE classification levels and corresponding resistor values are shown in Table 1.", 3 DET "Connect a 24.9-kohm detection resistor from DET to VDD.", 4 VSS (power) "Return line on the source side of the TPS2376-H from the PSE.", 5 RTN "Switched output side return line used as the low-side reference for the TPS2376-H load.", 6 PG (hiz) "Open-drain, power-good output, active high, referenced to RTN.", 7 UVLO (in) "UVLO comparator input that controls pass-device turn-on and off. Connect UVLO to a resistor divider from VDD to VSS.", 8 VDD (power) "Positive line from the rectified PSE provided input.", 9 EP (power) "The PowerPad must be connected to VSS. The VSS copper on the circuit board must be a large fill area to assist in heat dissipation."

## TPS2376DG4
designator U?
IEEE 802.3af PoE Powered Device Controller, -40 to 85 degC, 8-pin SOIC (D8), Green (RoHS & no Sb/Br); Manufacturer: Texas Instruments; PartNumber: TPS2376DG4; Auxiliary/Local Power Support: External Circuit; Fault Response: Latch; PD Power Level: 13W; PoE Current Limit(Min)(mA): 405; PoE I/F: TRUE; PoE Inrush Limit(Typ)(mA): Programmable; PoE Standards Supported: 802.3at type1; rDS(on) per FET(Typ)(mOhms): 580; UVLO: Adjustable; DatasheetVersion: SLVS525B; PackageVersion: 4040047-3/M; PackageReference: D8; PackageDescription: 8-Pin Plastic Small Outline, Body 4.9 x 3.9 mm, Pitch 1.27 mm; Supplier 1: Digi-Key; Supplier Part Number 1: TPS2376DG4-ND; Supplier 2: Mouser; Supplier Part Number 2: 595-TPS2376DG4; Eco-Plan: Green (RoHS & no Sb/Br); SubFamily: Powered Device; Mounting Technology: Surface Mount; Code_JEDEC: MS-012; ComponentLink1Description: Manufacturer URL; ComponentLink1URL: http://www.ti.com/; ComponentLink2Description: Datasheet; ComponentLink2URL: http://www.ti.com/general/docs/lit/getliterature.tsp?genericPartNumber=TPS2376&fileType=pdf; ComponentLink3Description: Package Specification; ComponentLink3URL: http://www.ti.com/litv/pdf/msoi002j
footprint TI-D8_N (SOIC, 8-Leads, Body 4.9x3.9mm, Pitch 1.27mm, IPC Medium Density)
footprint TI-D8_L (SOIC, 8-Leads, Body 4.9x3.9mm, Pitch 1.27mm, IPC High Density)
footprint TI-D8_M (SOIC, 8-Leads, Body 4.9x3.9mm, Pitch 1.27mm, IPC Low Density)
pins: 1 ILIM (in) "Connect a resistor from ILIM to VSS to set the start-up inrush current limit.The equation for calculating the resistor is shown in the detailed pin description section for ILIM.", 2 CLASS "Connect a resistor from CLASS to VSS to set the classification of the powered device (PD).", 3 DET "Connect a 24.9-kohm detection resistor from DET to VDD for a valid PD  detection.", 4 VSS (power) "Return line on the source side of the TPS2375 from the PSE.", 5 RTN "Switched output side return line used as the low-side reference for the TPS2375 load.", 6 PG (hiz) "Open-drain, power-good output; active high.", 7 UVLO (in) "Used only on the TPS2376. Connect a resistor divider from VDD to VSS to implement the adjustable UVLO feature of the TPS2376.", 8 VDD (power) "Positive line from the rectified PSE provided input"

## TPS2376DR
designator U?
IEEE 802.3af PoE Powered Device Controller, -40 to 85 degC, 8-pin SOIC (D8), Green (RoHS & no Sb/Br); Manufacturer: Texas Instruments; PartNumber: TPS2376DR; Auxiliary/Local Power Support: External Circuit; Fault Response: Latch; PD Power Level: 13W; PoE Current Limit(Min)(mA): 405; PoE I/F: TRUE; PoE Inrush Limit(Typ)(mA): Programmable; PoE Standards Supported: 802.3at type1; rDS(on) per FET(Typ)(mOhms): 580; UVLO: Adjustable; DatasheetVersion: SLVS525B; PackageVersion: 4040047-3/M; PackageReference: D8; PackageDescription: 8-Pin Plastic Small Outline, Body 4.9 x 3.9 mm, Pitch 1.27 mm; Supplier 1: Digi-Key; Supplier Part Number 1: TPS2376DR-ND; Supplier 2: Mouser; Supplier Part Number 2: 595-TPS2376DR; Eco-Plan: Green (RoHS & no Sb/Br); SubFamily: Powered Device; Mounting Technology: Surface Mount; Code_JEDEC: MS-012; ComponentLink1Description: Manufacturer URL; ComponentLink1URL: http://www.ti.com/; ComponentLink2Description: Datasheet; ComponentLink2URL: http://www.ti.com/general/docs/lit/getliterature.tsp?genericPartNumber=TPS2376&fileType=pdf; ComponentLink3Description: Package Specification; ComponentLink3URL: http://www.ti.com/litv/pdf/msoi002j
footprint TI-D8_N (SOIC, 8-Leads, Body 4.9x3.9mm, Pitch 1.27mm, IPC Medium Density)
footprint TI-D8_L (SOIC, 8-Leads, Body 4.9x3.9mm, Pitch 1.27mm, IPC High Density)
footprint TI-D8_M (SOIC, 8-Leads, Body 4.9x3.9mm, Pitch 1.27mm, IPC Low Density)
pins: 1 ILIM (in) "Connect a resistor from ILIM to VSS to set the start-up inrush current limit.The equation for calculating the resistor is shown in the detailed pin description section for ILIM.", 2 CLASS "Connect a resistor from CLASS to VSS to set the classification of the powered device (PD).", 3 DET "Connect a 24.9-kohm detection resistor from DET to VDD for a valid PD  detection.", 4 VSS (power) "Return line on the source side of the TPS2375 from the PSE.", 5 RTN "Switched output side return line used as the low-side reference for the TPS2375 load.", 6 PG (hiz) "Open-drain, power-good output; active high.", 7 UVLO (in) "Used only on the TPS2376. Connect a resistor divider from VDD to VSS to implement the adjustable UVLO feature of the TPS2376.", 8 VDD (power) "Positive line from the rectified PSE provided input"

## TPS2376DRG4
designator U?
IEEE 802.3af PoE Powered Device Controller, -40 to 85 degC, 8-pin SOIC (D8), Green (RoHS & no Sb/Br); Manufacturer: Texas Instruments; PartNumber: TPS2376DRG4; Auxiliary/Local Power Support: External Circuit; Fault Response: Latch; PD Power Level: 13W; PoE Current Limit(Min)(mA): 405; PoE I/F: TRUE; PoE Inrush Limit(Typ)(mA): Programmable; PoE Standards Supported: 802.3at type1; rDS(on) per FET(Typ)(mOhms): 580; UVLO: Adjustable; DatasheetVersion: SLVS525B; PackageVersion: 4040047-3/M; PackageReference: D8; PackageDescription: 8-Pin Plastic Small Outline, Body 4.9 x 3.9 mm, Pitch 1.27 mm; Supplier 1: Digi-Key; Supplier Part Number 1: TPS2376DRG4-ND; Supplier 2: Mouser; Supplier Part Number 2: 595-TPS2376DRG4; Eco-Plan: Green (RoHS & no Sb/Br); SubFamily: Powered Device; Mounting Technology: Surface Mount; Code_JEDEC: MS-012; ComponentLink1Description: Manufacturer URL; ComponentLink1URL: http://www.ti.com/; ComponentLink2Description: Datasheet; ComponentLink2URL: http://www.ti.com/general/docs/lit/getliterature.tsp?genericPartNumber=TPS2376&fileType=pdf; ComponentLink3Description: Package Specification; ComponentLink3URL: http://www.ti.com/litv/pdf/msoi002j
footprint TI-D8_N (SOIC, 8-Leads, Body 4.9x3.9mm, Pitch 1.27mm, IPC Medium Density)
footprint TI-D8_L (SOIC, 8-Leads, Body 4.9x3.9mm, Pitch 1.27mm, IPC High Density)
footprint TI-D8_M (SOIC, 8-Leads, Body 4.9x3.9mm, Pitch 1.27mm, IPC Low Density)
pins: 1 ILIM (in) "Connect a resistor from ILIM to VSS to set the start-up inrush current limit.The equation for calculating the resistor is shown in the detailed pin description section for ILIM.", 2 CLASS "Connect a resistor from CLASS to VSS to set the classification of the powered device (PD).", 3 DET "Connect a 24.9-kohm detection resistor from DET to VDD for a valid PD  detection.", 4 VSS (power) "Return line on the source side of the TPS2375 from the PSE.", 5 RTN "Switched output side return line used as the low-side reference for the TPS2375 load.", 6 PG (hiz) "Open-drain, power-good output; active high.", 7 UVLO (in) "Used only on the TPS2376. Connect a resistor divider from VDD to VSS to implement the adjustable UVLO feature of the TPS2376.", 8 VDD (power) "Positive line from the rectified PSE provided input"

## TPS2376PW
designator U?
IEEE 802.3af PoE Powered Device Controller, -40 to 85 degC, 8-pin SOP (PW8), Green (RoHS & no Sb/Br); Manufacturer: Texas Instruments; PartNumber: TPS2376PW; Auxiliary/Local Power Support: External Circuit; Fault Response: Latch; PD Power Level: 13W; PoE Current Limit(Min)(mA): 405; PoE I/F: TRUE; PoE Inrush Limit(Typ)(mA): Programmable; PoE Standards Supported: 802.3at type1; rDS(on) per FET(Typ)(mOhms): 580; UVLO: Adjustable; DatasheetVersion: SLVS525B; PackageVersion: 4040064-2/G; PackageReference: PW8; PackageDescription: 8-Pin Plastic Small Outline, Body 4.4 x 3 mm, Pitch 0.65 mm; Supplier 1: Digi-Key; Supplier Part Number 1: 296-17064-ND; Supplier 2: Newark; Supplier Part Number 2: 10J9749; Supplier 3: Mouser; Supplier Part Number 3: 595-TPS2376PW; Eco-Plan: Green (RoHS & no Sb/Br); SubFamily: Powered Device; Mounting Technology: Surface Mount; Code_JEDEC: MO-153; ComponentLink1Description: Manufacturer URL; ComponentLink1URL: http://www.ti.com/; ComponentLink2Description: Datasheet; ComponentLink2URL: http://www.ti.com/general/docs/lit/getliterature.tsp?genericPartNumber=TPS2376&fileType=pdf; ComponentLink3Description: Package Specification; ComponentLink3URL: http://www.ti.com/litv/pdf/mtss001d
footprint TI-PW8_N (SOP, 8-Leads, Body 4.4x3mm, Pitch 0.65mm, IPC Medium Density)
footprint TI-PW8_L (SOP, 8-Leads, Body 4.4x3mm, Pitch 0.65mm, IPC High Density)
footprint TI-PW8_M (SOP, 8-Leads, Body 4.4x3mm, Pitch 0.65mm, IPC Low Density)
pins: 1 ILIM (in) "Connect a resistor from ILIM to VSS to set the start-up inrush current limit.The equation for calculating the resistor is shown in the detailed pin description section for ILIM.", 2 CLASS "Connect a resistor from CLASS to VSS to set the classification of the  powered device (PD).", 3 DET "Connet a 24.9-kohm detection resistor from DET to VDD for a valid PD detection.", 4 VSS (power) "Return line on the source side of the TPS2375 from the PSE.", 5 RTN "Switched output side return line used as thr low-side reference for the TPS2375 load.", 6 PG (hiz) "Open-drain, power-good output; active high.", 7 UVLO (in) "Used only on the TPA2376.Connect a resister divider from VDD to VSS to implement the adjustable ULVO feature of the TPS2376.", 8 VDD (power) "Positive line from the rectified PSE provided input."